# EAGLE library part LPC47M192 (library xbox)
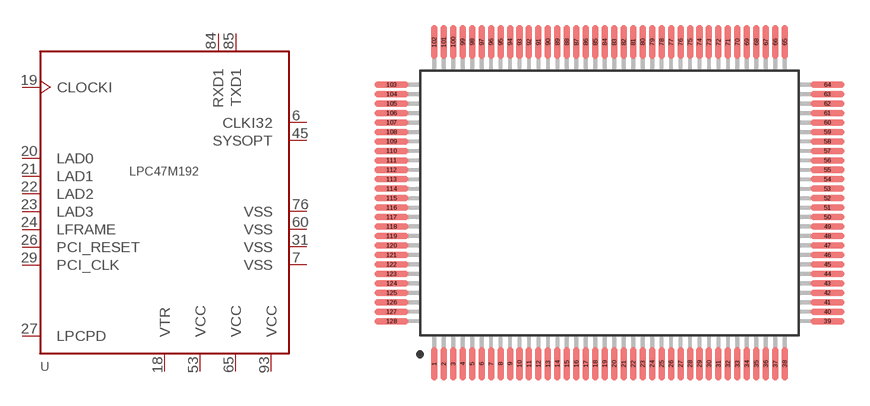
[diagram p0: symbol with the pads of QFP128; footprint QFP128]

Designator prefix U

## LPC47M192  [QFP128]
6  CLKI32  in
7  VSS  pwr
18  VTR  pwr
19  CLOCKI  in
20  LAD0
21  LAD1
22  LAD2
23  LAD3
24  LFRAME  in
26  PCI_RESET  in
27  LPCPD  in
29  PCI_CLK  in
31  VSS  pwr
45  SYSOPT
53  VCC  pwr
60  VSS  pwr
65  VCC  pwr
76  VSS  pwr
84  RXD1  in
85  TXD1  out
93  VCC  pwr

## Footprint QFP128 (pad centres in mm)
smd 0.356 x 1.8: 1 2.25,-2.25; 2 2.75,-2.25; 3 3.25,-2.25; 4 3.75,-2.25; 5 4.25,-2.25; 6 4.75,-2.25; 7 5.25,-2.25; 8 5.75,-2.25; 9 6.25,-2.25; 10 6.75,-2.25; 11 7.25,-2.25; 12 7.75,-2.25; 13 8.25,-2.25; 14 8.75,-2.25; 15 9.25,-2.25; 16 9.75,-2.25; 17 10.25,-2.25; 18 10.75,-2.25; 19 11.25,-2.25; 20 11.75,-2.25; 21 12.25,-2.25; 22 12.75,-2.25; 23 13.25,-2.25; 24 13.75,-2.25; 25 14.25,-2.25; 26 14.75,-2.25; 27 15.25,-2.25; 28 15.75,-2.25; 29 16.25,-2.25; 30 16.75,-2.25; 31 17.25,-2.25; 32 17.75,-2.25; 33 18.25,-2.25; 34 18.75,-2.25; 35 19.25,-2.25; 36 19.75,-2.25; 37 20.25,-2.25; 38 20.75,-2.25; 65 20.75,14.75; 66 20.25,14.75; 67 19.75,14.75; 68 19.25,14.75; 69 18.75,14.75; 70 18.25,14.75; 71 17.75,14.75; 72 17.25,14.75; 73 16.75,14.75; 74 16.25,14.75; 75 15.75,14.75; 76 15.25,14.75; 77 14.75,14.75; 78 14.25,14.75; 79 13.75,14.75; 80 13.25,14.75; 81 12.75,14.75; 82 12.25,14.75; 83 11.75,14.75; 84 11.25,14.75; 85 10.75,14.75; 86 10.25,14.75; 87 9.75,14.75; 88 9.25,14.75; 89 8.75,14.75; 90 8.25,14.75; 91 7.75,14.75; 92 7.25,14.75; 93 6.75,14.75; 94 6.25,14.75; 95 5.75,14.75; 96 5.25,14.75; 97 4.75,14.75; 98 4.25,14.75; 99 3.75,14.75; 100 3.25,14.75; 101 2.75,14.75; 102 2.25,14.75
smd 1.8 x 0.356: 39 23,0; 40 23,0.5; 41 23,1; 42 23,1.5; 43 23,2; 44 23,2.5; 45 23,3; 46 23,3.5; 47 23,4; 48 23,4.5; 49 23,5; 50 23,5.5; 51 23,6; 52 23,6.5; 53 23,7; 54 23,7.5; 55 23,8; 56 23,8.5; 57 23,9; 58 23,9.5; 59 23,10; 60 23,10.5; 61 23,11; 62 23,11.5; 63 23,12; 64 23,12.5; 103 0,12.5; 104 0,12; 105 0,11.5; 106 0,11; 107 0,10.5; 108 0,10; 109 0,9.5; 110 0,9; 111 0,8.5; 112 0,8; 113 0,7.5; 114 0,7; 115 0,6.5; 116 0,6; 117 0,5.5; 118 0,5; 119 0,4.5; 120 0,4; 121 0,3.5; 122 0,3; 123 0,2.5; 124 0,2; 125 0,1.5; 126 0,1; 127 0,0.5; 128 0,0